# Altium schematic symbol library Interface_HDMI.SchLib: 2 symbols
Pins are listed as number, name and electrical type; pins without a type are passive.

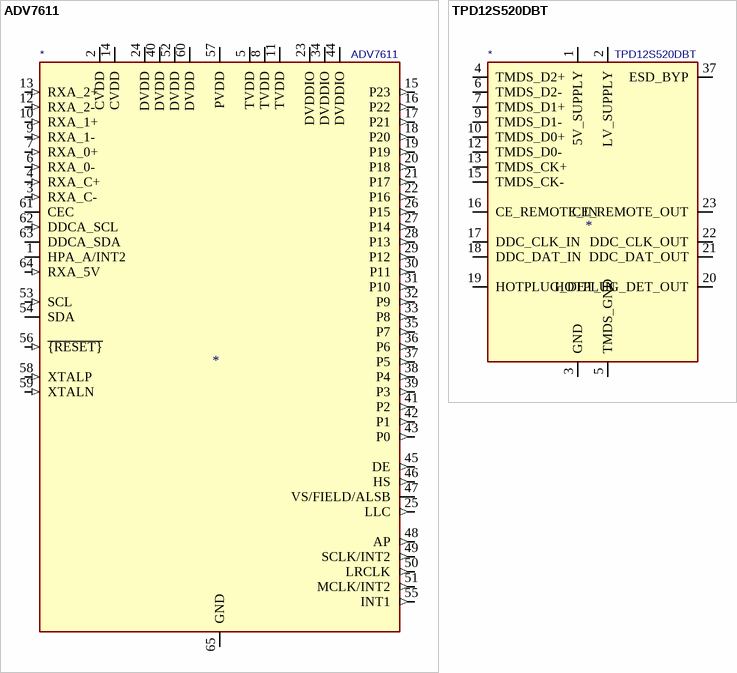
[diagram p0: symbols ADV7611 to TPD12S520DBT]

## ADV7611
designator *  value ADV7611
ki_keywords: hdmi; ki_description: Low Power 165MHz HDMI Receiver, LQFP-64; ki_fp_filters: LQFP*1EP*10x10mm*P0.5mm*; Footprint: Package_QFP:LQFP-64-1EP_10x10mm_P0.5mm_EP5x5mm; Supplier: https://www.analog.com/media/en/technical-documentation/data-sheets/adv7611.pdf
footprint LQFP-64-1EP_10x10mm_P0.5mm_EP5x5mm
pins: 1 HPA_A/INT2 (io), 2 CVDD (power), 3 RXA_C- (in), 4 RXA_C+ (in), 5 TVDD (power), 6 RXA_0- (in), 7 RXA_0+ (in), 8 TVDD (power), 9 RXA_1- (in), 10 RXA_1+ (in), 11 TVDD (power), 12 RXA_2- (in), 13 RXA_2+ (in), 14 CVDD (power), 15 P23 (out), 16 P22 (out), 17 P21 (out), 18 P20 (out), 19 P19 (out), 20 P18 (out), 21 P17 (out), 22 P16 (out), 23 DVDDIO (power), 24 DVDD (power), 25 LLC (out), 26 P15 (out), 27 P14 (out), 28 P13 (out), 29 P12 (out), 30 P11 (out), 31 P10 (out), 32 P9 (out), 33 P8 (out), 34 DVDDIO (power), 35 P7 (out), 36 P6 (out), 37 P5 (out), 38 P4 (out), 39 P3 (out), 40 DVDD (power), 41 P2 (out), 42 P1 (out), 43 P0 (out), 44 DVDDIO (power), 45 DE (out), 46 HS (out), 47 VS/FIELD/ALSB (io), 48 AP (out), 49 SCLK/INT2 (out), 50 LRCLK (out), 51 MCLK/INT2 (out), 52 DVDD (power), 53 SCL (in), 54 SDA (io), 55 INT1 (out), 56 ~{{RESET}} (in), 57 PVDD (power), 58 XTALP (in), 59 XTALN (in), 60 DVDD (power), 61 CEC (io), 62 DDCA_SCL (in), 63 DDCA_SDA (io), 64 RXA_5V (in), 65 GND (power)

## TPD12S520DBT
designator *  value TPD12S520DBT
ki_keywords: hdmi; ki_description: HDMI Receiver Port Protection and Interface Device, TSSOP-38; ki_fp_filters: TSSOP*4.4x9.7mm*P0.5mm*; Footprint: Package_SO:TSSOP-38_4.4x9.7mm_P0.5mm; Supplier: http://www.ti.com/lit/ds/symlink/tpd12s520.pdf
footprint TSSOP-38_4.4x9.7mm_P0.5mm
pins: 1 5V_SUPPLY (power), 2 LV_SUPPLY (power), 3 GND (power), 4 TMDS_D2+, 5 TMDS_GND, 6 TMDS_D2-, 7 TMDS_D1+, 8 TMDS_GND hidden, 9 TMDS_D1-, 10 TMDS_D0+, 11 TMDS_GND hidden, 12 TMDS_D0-, 13 TMDS_CK+, 14 TMDS_GND hidden, 15 TMDS_CK-, 16 CE_REMOTE_IN (io), 17 DDC_CLK_IN (io), 18 DDC_DAT_IN (io), 19 HOTPLUG_DET_IN (io), 20 HOTPLUG_DET_OUT (io), 21 DDC_DAT_OUT (io), 22 DDC_CLK_OUT (io), 23 CE_REMOTE_OUT (io), 24 TMDS_CK- hidden, 25 TMDS_GND hidden, 26 TMDS_CK+ hidden, 27 TMDS_D0- hidden, 28 TMDS_GND hidden, 29 TMDS_D0+ hidden, 30 TMDS_D1- hidden, 31 TMDS_GND hidden, 32 TMDS_D1+ hidden, 33 TMDS_D2- hidden, 34 TMDS_GND hidden, 35 TMDS_D2+ hidden, 36 GND hidden, 37 ESD_BYP, 38 NC (in) hidden